# Altium schematic symbol library CONN(2.54mm, 4x1, 4-POS, VERT, M-HEADER).SchLib: 1 symbol
Pins are listed as number, name and electrical type; pins without a type are passive.

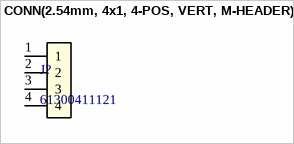
[diagram p0: symbol CONN(2.54mm, 4x1, 4-POS, VERT, M-HEADER)]

## CONN(2.54mm, 4x1, 4-POS, VERT, M-HEADER)
designator J?, comment 61300411121
Connector Header Through Hole 4 position 0.100 (2.54mm); Manufacturer: Würth Elektronik; Manufacturer_PN: 61300411121; Package: Through-Hole; Datasheet: https://www.we-online.com/components/products/datasheet/61300411121.pdf; Digikey_Link: https://www.digikey.it/en/products/detail/w%C3%BCrth-elektronik/61300411121/4846827?s=N4IgTCBcDaIGwEYDMAGFAWBWwJAXQF8g
footprint WURTH_61300411121
pins: 1, 2, 3, 4